# EAGLE library part CON44_FULL (library JAMMA)
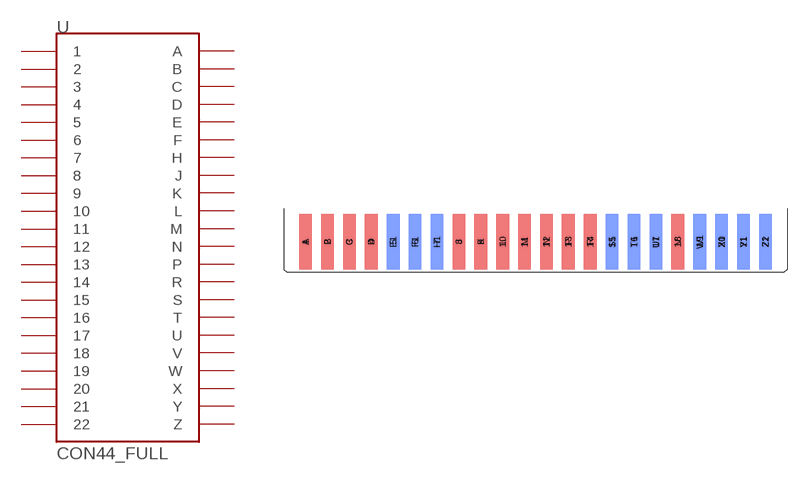
[diagram p4: symbol with the pads of CON44_FULL; footprint CON44_FULL]

Designator prefix -

## CON44_FULL  [CON44_FULL]
1  1
2  2
3  3
4  4
5  5
6  6
7  7
8  8
9  9
10  10
11  11
12  12
13  13
14  14
15  15
16  16
17  17
18  18
19  19
20  20
21  21
22  22
A  A
B  B
C  C
D  D
E1  E
F1  F
H1  H
J  J
K  K
L  L
M  M
N  N
P  P
R  R
S1  S
T1  T
U1  U
V  V
W1  W
X1  X
Y1  Y
Z1  Z

## Footprint CON44_FULL (pad centres in mm)
smd 2.3 x 10: 1 -39.79,5.08; 2 -35.83,5.08; 3 -31.87,5.08; 4 -27.91,5.08; 5 -23.95,5.08; 6 -19.99,5.08; 7 -16.03,5.08; 8 -12.07,5.08; 9 -8.11,5.08; 10 -4.15,5.08; 11 -0.19,5.08; 12 3.77,5.08; 13 7.73,5.08; 14 11.69,5.08; 15 15.65,5.08; 16 19.61,5.08; 17 23.57,5.08; 18 27.53,5.08; 19 31.49,5.08; 20 35.45,5.08; 21 39.41,5.08; 22 43.37,5.08
smd 2.3 x 10 bottom: A -39.79,5.08; B -35.83,5.08; C -31.87,5.08; D -27.91,5.08; E1 -23.95,5.08; F1 -19.99,5.08; H1 -16.03,5.08; J -12.07,5.08; K -8.11,5.08; L -4.15,5.08; M -0.19,5.08; N 3.77,5.08; P 7.73,5.08; R 11.69,5.08; S1 15.65,5.08; T1 19.61,5.08; U1 23.57,5.08; V 27.53,5.08; W1 31.49,5.08; X1 35.45,5.08; Y1 39.41,5.08; Z1 43.37,5.08